# Altium schematic symbol library RCA06032K00JNEA.SchLib: 1 symbol
Pins are listed as number, name and electrical type; pins without a type are passive.

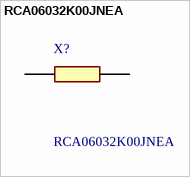
[diagram p0: symbol RCA06032K00JNEA]

## RCA06032K00JNEA
designator X?
Thick Film Resistors - SMD RCA0603 2K0 5% 200 ET1 e3; Manufacturer_Name: Vishay; Geometry.Height: 0.5mm; Manufacturer_Part_Number: RCA06032K00JNEA; Mouser Part Number: *; Mouser Price/Stock: *; Arrow Part Number: *; Arrow Price/Stock: *; Datasheet Link: https://www.vishay.com/docs/20037/rcae3.pdf
footprint RESC1608X50N
pins: 1, 2